# Altium schematic symbol library SCH - MCU - NUVOTON - NUVOTON MS51XB9AE.SchLib: 1 symbol
Pins are listed as number, name and electrical type; pins without a type are passive.

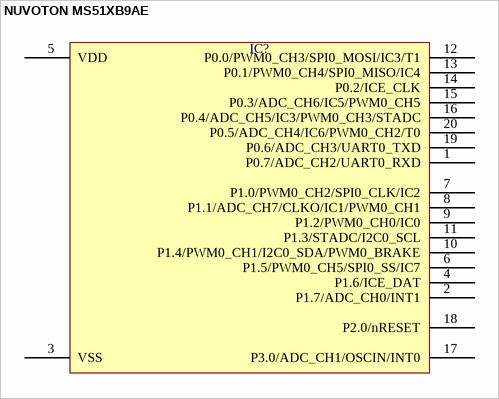
[diagram p0: symbol NUVOTON MS51XB9AE]

## NUVOTON MS51XB9AE
designator IC?  (value not drawn)
pins: 1 P0.7/ADC_CH2/UART0_RXD, 2 P1.7/ADC_CH0/INT1, 3 VSS, 4 P1.6/ICE_DAT, 5 VDD, 6 P1.5/PWM0_CH5/SPI0_SS/IC7, 7 P1.0/PWM0_CH2/SPI0_CLK/IC2, 8 P1.1/ADC_CH7/CLKO/IC1/PWM0_CH1, 9 P1.2/PWM0_CH0/IC0, 10 P1.4/PWM0_CH1/I2C0_SDA/PWM0_BRAKE, 11 P1.3/STADC/I2C0_SCL, 12 P0.0/PWM0_CH3/SPI0_MOSI/IC3/T1, 13 P0.1/PWM0_CH4/SPI0_MISO/IC4, 14 P0.2/ICE_CLK, 15 P0.3/ADC_CH6/IC5/PWM0_CH5, 16 P0.4/ADC_CH5/IC3/PWM0_CH3/STADC, 17 P3.0/ADC_CH1/OSCIN/INT0, 18 P2.0/nRESET, 19 P0.6/ADC_CH3/UART0_TXD, 20 P0.5/ADC_CH4/IC6/PWM0_CH2/T0